# Altium footprint library SY10EP11UKG.PcbLib: 1 footprints
Each footprint in its own frame and in the unit in brackets; x right, y up, seen from the top. Pads: shape width x height; smd on the part's side, far side on the other; paste and mask are expansions set on the pad; w line width, h text height; cw(c..) or ccw(c..) is an arc to the next point about the centre after c.
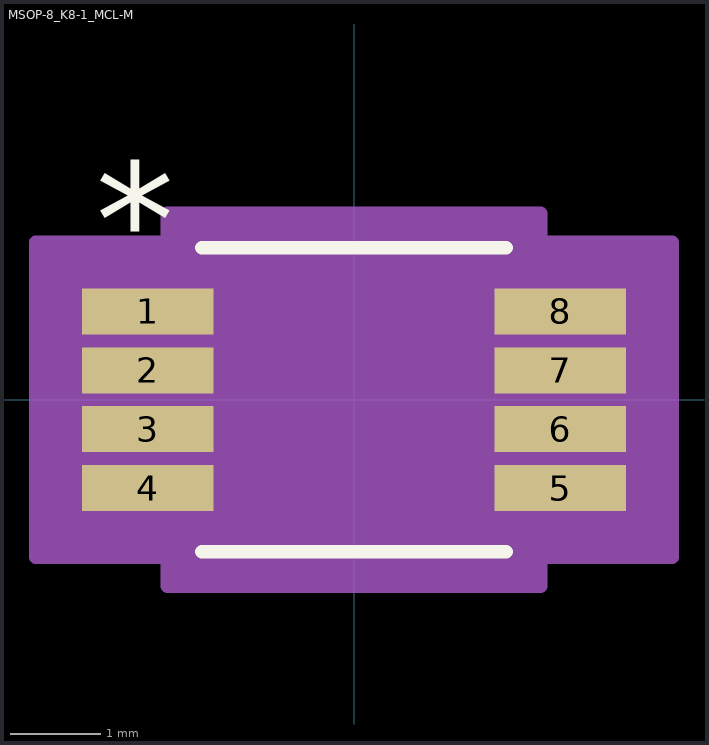
[diagram p0: the footprint, top view; thin cyan lines are the x and y axes]

## MSOP-8_K8-1_MCL-M [mm]
pads (8):
  rect 1.452x0.507 smd paste+0 mask+0: 1(-2.275,0.975) 2(-2.275,0.325) 3(-2.275,-0.325) 4(-2.275,-0.975) 5(2.275,-0.975) 6(2.275,-0.325) 7(2.275,0.325) 8(2.275,0.975)
Top Overlay:
  lines w0.152: -1.676,-1.676 1.676,-1.676 ; -1.676,1.676 1.676,1.676
  text "*" at -2.847,1.355 h1.27
Mechanical 13:
  lines w0: -0.305,1.549 ccw(c0,1.549) 0.305,1.549
  lines w0.025: -2.451,-1.204 -1.549,-1.204 -1.549,-0.746 -2.451,-0.746 -2.451,-1.204 ; -2.451,-0.554 -1.549,-0.554 -1.549,-0.096 -2.451,-0.096 -2.451,-0.554 ; -2.451,0.096 -1.549,0.096 -1.549,0.554 -2.451,0.554 -2.451,0.096 ; -2.451,0.746 -1.549,0.746 -1.549,1.204 -2.451,1.204 -2.451,0.746 ; -1.549,-1.549 -1.549,1.549 1.549,1.549 1.549,-1.549 -1.549,-1.549 ; 1.549,-1.204 2.451,-1.204 2.451,-0.746 1.549,-0.746 1.549,-1.204 ; 1.549,-0.554 2.451,-0.554 2.451,-0.096 1.549,-0.096 1.549,-0.554 ; 1.549,0.096 2.451,0.096 2.451,0.554 1.549,0.554 1.549,0.096 ; 1.549,0.746 2.451,0.746 2.451,1.204 1.549,1.204 1.549,0.746
  text "*" at -1.486,0.203 h1.27
Mechanical 15:
  region: -2.057,-1.737 -3.509,-1.737 -3.509,1.737 -2.057,1.737 -2.057,2.057 2.057,2.057 2.057,1.737 3.509,1.737 3.509,-1.737 2.057,-1.737 2.057,-2.057 -2.057,-2.057
  lines w0.152: -3.509,-1.737 -2.057,-1.737 -2.057,-2.057 2.057,-2.057 2.057,-1.737 3.509,-1.737 3.509,1.737 2.057,1.737 2.057,2.057 -2.057,2.057 -2.057,1.737 -3.509,1.737 -3.509,-1.737
3D body "MSOP-8_K8-1_MCL.step": height 1.09, standoff 0, extent -2.451,-1.549 2.451,1.549